# EAGLE library part 750310059 (library WE-POE+)
WE-PoE+ Power over Ethernet Plus Transformer Characteristics Designed to meet 30 W PoE+ objectives of IEEE802.3at Frequency range: 250–400 kHz Input voltage range: 36–72 V 1.5 kV Hipot test between primary and secondary Operating temperature: –40 °C to +125 °C (incl. self-heating) Applications PoE+ powered devices IP Phones WLAN Access Points Security cameras <https://www.we-online.com/components/media/o14840v209%20Family_WE-POE%2B.jpg> Details see: www.we-online.com/en/components/products/WE-POE-PLUS <www.we-online.com/catalog/WE-POE-PLUS/?utm_source=eagle_model&utm_medium=description_link&utm_campaign=eisos_eagle> Updated by Ella 2024-01-29 2024(C) Wurth Elektronik
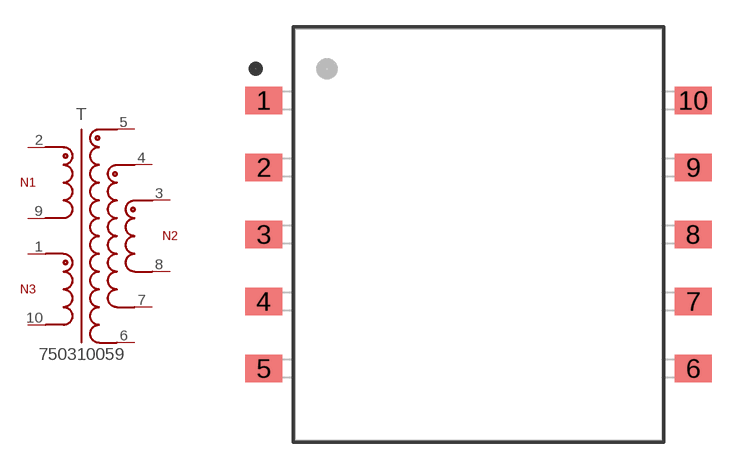
[diagram p18: symbol with the pads of WE-POE+_EFD20_L25.91W23.11H10.92; footprint WE-POE+_EFD20_L25.91W23.11H10.92]

Designator prefix T

## 750310059 (DATASHEET-URL: https://www.we-online.com/redexpert/spec/750310059?ae; IO1: 6A; L: 29.2uH; MOUNT: SMT; PART-NUMBER: 750310059; RDC1: 0.75ohm; RDC2: 0.0045ohm; RDC3: 0.75ohm; SIZE: EFD20; TURNS-RATIO: 8:1:3.5; VALUE: 29.2uH; VAUX: 17V; VERSION: Active Clamp Forward; VIN: 36 - 72 V (DC); VO1: 5V; VT: 1500VAC)  [WE-POE+_EFD20_L25.91W23.11H10.92]
1  1  pas
2  2  pas
3  3  pas
4  4  pas
5  5  pas
6  6  pas
7  7  pas
8  8  pas
9  9  pas
10  10  pas

## Footprint WE-POE+_EFD20_L25.91W23.11H10.92 (pad centres in mm)
WE-PoE+ Power over Ethernet Plus Transformer Size: EFD20, SMT, 12Pins LXWXH=25.9X23.11X10.92mm
smd 2.08 x 1.55: 1 -12.05,7.52; 2 -12.05,3.76; 3 -12.05,0; 4 -12.05,-3.76; 5 -12.05,-7.52; 6 12.05,-7.52; 7 12.05,-3.76; 8 12.05,0; 9 12.05,3.76; 10 12.05,7.52